# EAGLE library part TJA1050 (library TJA1050)
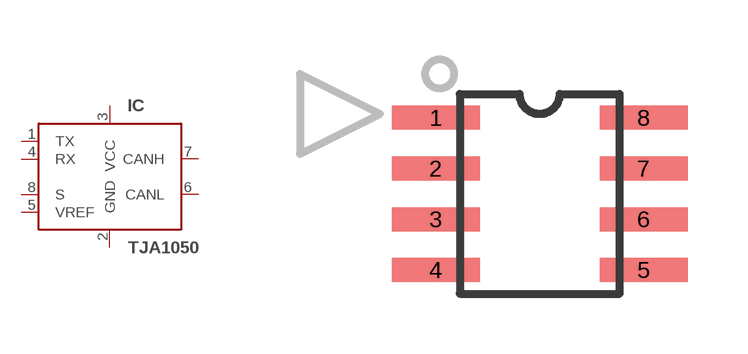
[diagram p0: symbol with the pads of SOIC8; footprint SOIC8]

Designator prefix IC

## TJA1050T (MF: NXP; MPN: TJA1050T)  [SOIC8]
1  TX  in
2  GND  pwr
3  VCC  in
4  RX  out
5  VREF  out
6  CANL
7  CANH
8  S  in

## Footprint SOIC8 (pad centres in mm)
smd 2.2 x 0.6: 1 -2.6,1.905; 2 -2.6,0.635; 3 -2.6,-0.635; 4 -2.6,-1.905; 5 2.6,-1.905; 6 2.6,-0.635; 7 2.6,0.635; 8 2.6,1.905